# EAGLE library part XC3536 (library maruchan)
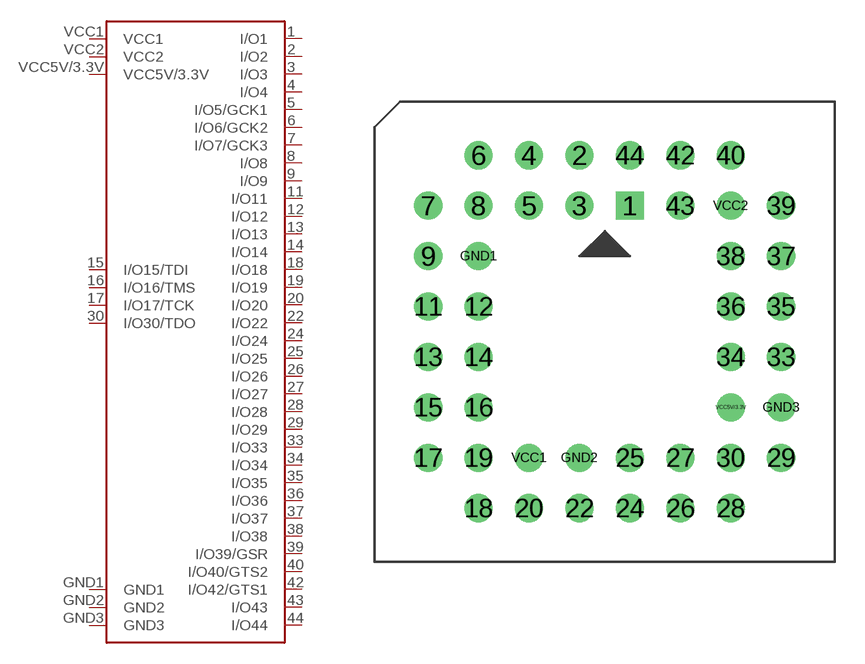
[diagram p1: symbol with the pads of XC3536; footprint XC3536]

Designator prefix -

## XC3536  [XC3536]
1  I/O1
2  I/O2
3  I/O3
4  I/O4
5  I/O5/GCK1
6  I/O6/GCK2
7  I/O7/GCK3
8  I/O8
9  I/O9
11  I/O11
12  I/O12
13  I/O13
14  I/O14
15  I/O15/TDI
16  I/O16/TMS
17  I/O17/TCK
18  I/O18
19  I/O19
20  I/O20
22  I/O22
24  I/O24
25  I/O25
26  I/O26
27  I/O27
28  I/O28
29  I/O29
30  I/O30/TDO
33  I/O33
34  I/O34
35  I/O35
36  I/O36
37  I/O37
38  I/O38
39  I/O39/GSR
40  I/O40/GTS2
42  I/O42/GTS1
43  I/O43
44  I/O44
GND1  GND1  pwr
GND2  GND2  pwr
GND3  GND3  pwr
VCC1  VCC1  pwr
VCC2  VCC2  pwr
VCC5V/3.3V  VCC5V/3.3V  pwr

## Footprint XC3536 (pad centres in mm)
drill 0.8 pad 1.422 square: 1 1.27,6.35
drill 0.8 pad 1.422 round: 2 -1.27,8.89; 3 -1.27,6.35; 4 -3.81,8.89; 5 -3.81,6.35; 6 -6.35,8.89; 7 -8.89,6.35; 8 -6.35,6.35; 9 -8.89,3.81; 11 -8.89,1.27; 12 -6.35,1.27; 13 -8.89,-1.27; 14 -6.35,-1.27; 15 -8.89,-3.81; 16 -6.35,-3.81; 17 -8.89,-6.35; 18 -6.35,-8.89; 19 -6.35,-6.35; 20 -3.81,-8.89; 22 -1.27,-8.89; 24 1.27,-8.89; 25 1.27,-6.35; 26 3.81,-8.89; 27 3.81,-6.35; 28 6.35,-8.89; 29 8.89,-6.35; 30 6.35,-6.35; 33 8.89,-1.27; 34 6.35,-1.27; 35 8.89,1.27; 36 6.35,1.27; 37 8.89,3.81; 38 6.35,3.81; 39 8.89,6.35; 40 6.35,8.89; 42 3.81,8.89; 43 3.81,6.35; 44 1.27,8.89; GND1 -6.35,3.81; GND2 -1.27,-6.35; GND3 8.89,-3.81; VCC1 -3.81,-6.35; VCC2 6.35,6.35; VCC5V/3.3V 6.35,-3.81